# Altium schematic symbol library BW2099_SoM.SchLib: 2 symbols
Pins are listed as number, name and electrical type; pins without a type are passive.

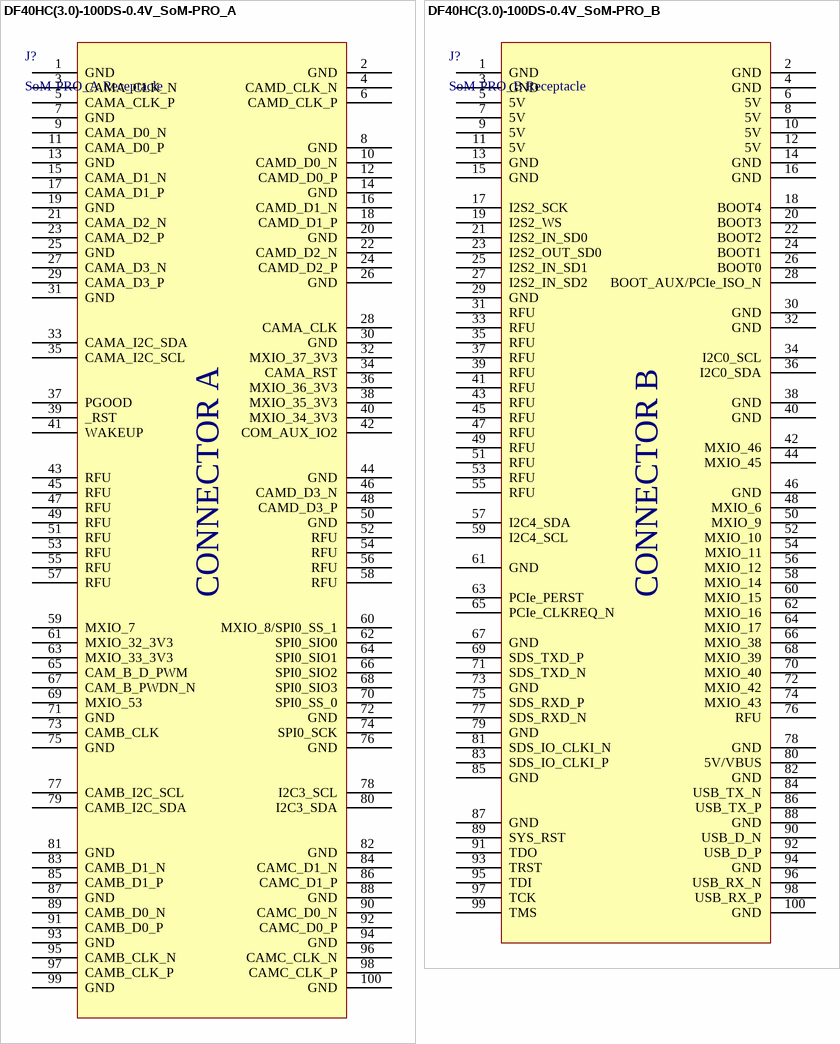
[diagram p0: symbols DF40HC(3.0)-100DS-0.4V_SoM-PRO_A to DF40HC(3.0)-100DS-0.4V_SoM-PRO_B]

## DF40HC(3.0)-100DS-0.4V_SoM-PRO_A
designator J?, comment SoM-PRO_A Receptacle
CONN RCPT 100POS 0.4MM SMD GOLD; Manufacturer 1: Hirose; Manufacturer Part Number 1: DF40HC(3.0)-100DS-0.4V(58); Number of Positions: 100; Pitch: 0.016inch; System: Connector; RoHS: Yes; Mount: Surface Mount; Contact Plating: Gold; Packaging: Tape and Reel; Number of Rows: 2; Package Quantity: 1000; Connector Type: Receptacle; Lead Free: Lead Free; ComponentLink1URL: https://datasheet.ciiva.com/46636/ed-df40-20140305-46636517.pdf?src-supplier=Digi-Key; ComponentLink1Description: https://datasheet.ciiva.com/46636/ed-df40-20140305-46636517.pdf?src-supplier=Digi-Key; ComponentLink2URL: https://datasheet.ciiva.com/18562/ed-df40-20140305-18562189.pdf?src-supplier=Digi-Key; ComponentLink2Description: https://datasheet.ciiva.com/18562/ed-df40-20140305-18562189.pdf?src-supplier=Digi-Key; ComponentLink3URL: https://datasheet.ciiva.com/13559/ed-df40-20140305-13559540.pdf?src-supplier=Mouser; ComponentLink3Description: https://datasheet.ciiva.com/13559/ed-df40-20140305-13559540.pdf?src-supplier=Mouser; ComponentLink4URL: https://datasheet.ciiva.com/18562/ed-df40-20140305-18562462.pdf?src-supplier=Digi-Key; ComponentLink4Description: https://datasheet.ciiva.com/18562/ed-df40-20140305-18562462.pdf?src-supplier=Digi-Key; Supplier 1: Mouser; Stock 1: 2172; Pricing 1: 1=2.54000, 10=2.26000, 25=2.07000, 50=2.07000, 100=1.98000, 250=1.79000, 500=1.65000, 1000=1.41000, 3000=1.32000, 6000=1.23000, 10000=1.23000 (USD); Supplier 2: Mouser; Stock 2: 2078; Pricing 2: 1=2.50000, 10=2.40000, 25=2.10000, 50=2.10000, 100=2.00000, 250=1.76000, 500=1.71000, 1000=1.45000, 2000=1.36000, 5000=1.31000, 10000=1.31000 (USD); Supplier Part Number 1: 798-DF40HC30100DS451; Supplier Part Number 2: 798-DF40HC30100DS458
footprint CON_A_BW2099_SoM_DF40HC-3.0-100DS-0.4V_minpad (3.0MM MATED HEIGHT CONN HDR 100POS 0.4MM SMD GOLD)
pins: 1 GND, 2 GND, 3 CAMA_CLK_N, 4 CAMD_CLK_N, 5 CAMA_CLK_P, 6 CAMD_CLK_P, 7 GND, 8 GND, 9 CAMA_D0_N, 10 CAMD_D0_N, 11 CAMA_D0_P, 12 CAMD_D0_P, 13 GND, 14 GND, 15 CAMA_D1_N, 16 CAMD_D1_N, 17 CAMA_D1_P, 18 CAMD_D1_P, 19 GND, 20 GND, 21 CAMA_D2_N, 22 CAMD_D2_N, 23 CAMA_D2_P, 24 CAMD_D2_P, 25 GND, 26 GND, 27 CAMA_D3_N, 28 CAMA_CLK, 29 CAMA_D3_P, 30 GND, 31 GND, 32 MXIO_37_3V3, 33 CAMA_I2C_SDA, 34 CAMA_RST, 35 CAMA_I2C_SCL, 36 MXIO_36_3V3, 37 PGOOD, 38 MXIO_35_3V3, 39 _RST, 40 MXIO_34_3V3, 41 WAKEUP, 42 COM_AUX_IO2, 43 RFU, 44 GND, 45 RFU, 46 CAMD_D3_N, 47 RFU, 48 CAMD_D3_P, 49 RFU, 50 GND, 51 RFU, 52 RFU, 53 RFU, 54 RFU, 55 RFU, 56 RFU, 57 RFU, 58 RFU, 59 MXIO_7, 60 MXIO_8/SPI0_SS_1, 61 MXIO_32_3V3, 62 SPI0_SIO0, 63 MXIO_33_3V3, 64 SPI0_SIO1, 65 CAM_B_D_PWM, 66 SPI0_SIO2, 67 CAM_B_PWDN_N, 68 SPI0_SIO3, 69 MXIO_53, 70 SPI0_SS_0, 71 GND, 72 GND, 73 CAMB_CLK, 74 SPI0_SCK, 75 GND, 76 GND, 77 CAMB_I2C_SCL, 78 I2C3_SCL, 79 CAMB_I2C_SDA, 80 I2C3_SDA, 81 GND, 82 GND, 83 CAMB_D1_N, 84 CAMC_D1_N, 85 CAMB_D1_P, 86 CAMC_D1_P, 87 GND, 88 GND, 89 CAMB_D0_N, 90 CAMC_D0_N, 91 CAMB_D0_P, 92 CAMC_D0_P, 93 GND, 94 GND, 95 CAMB_CLK_N, 96 CAMC_CLK_N, 97 CAMB_CLK_P, 98 CAMC_CLK_P, 99 GND, 100 GND
text: CONNECTOR A

## DF40HC(3.0)-100DS-0.4V_SoM-PRO_B
designator J?, comment SoM-PRO_B Receptacle
CONN RCPT 100POS 0.4MM SMD GOLD; Manufacturer 1: Hirose; Manufacturer Part Number 1: DF40HC(3.0)-100DS-0.4V(58); Number of Positions: 100; Pitch: 0.016inch; System: Connector; RoHS: Yes; Mount: Surface Mount; Contact Plating: Gold; Packaging: Tape and Reel; Number of Rows: 2; Package Quantity: 1000; Connector Type: Receptacle; Lead Free: Lead Free; ComponentLink1URL: https://datasheet.ciiva.com/46636/ed-df40-20140305-46636517.pdf?src-supplier=Digi-Key; ComponentLink1Description: https://datasheet.ciiva.com/46636/ed-df40-20140305-46636517.pdf?src-supplier=Digi-Key; ComponentLink2URL: https://datasheet.ciiva.com/18562/ed-df40-20140305-18562189.pdf?src-supplier=Digi-Key; ComponentLink2Description: https://datasheet.ciiva.com/18562/ed-df40-20140305-18562189.pdf?src-supplier=Digi-Key; ComponentLink3URL: https://datasheet.ciiva.com/13559/ed-df40-20140305-13559540.pdf?src-supplier=Mouser; ComponentLink3Description: https://datasheet.ciiva.com/13559/ed-df40-20140305-13559540.pdf?src-supplier=Mouser; ComponentLink4URL: https://datasheet.ciiva.com/18562/ed-df40-20140305-18562462.pdf?src-supplier=Digi-Key; ComponentLink4Description: https://datasheet.ciiva.com/18562/ed-df40-20140305-18562462.pdf?src-supplier=Digi-Key; Supplier 1: Mouser; Stock 1: 2172; Pricing 1: 1=2.54000, 10=2.26000, 25=2.07000, 50=2.07000, 100=1.98000, 250=1.79000, 500=1.65000, 1000=1.41000, 3000=1.32000, 6000=1.23000, 10000=1.23000 (USD); Supplier 2: Mouser; Stock 2: 2078; Pricing 2: 1=2.50000, 10=2.40000, 25=2.10000, 50=2.10000, 100=2.00000, 250=1.76000, 500=1.71000, 1000=1.45000, 2000=1.36000, 5000=1.31000, 10000=1.31000 (USD); Supplier Part Number 1: 798-DF40HC30100DS451; Supplier Part Number 2: 798-DF40HC30100DS458
footprint CON_B_BW2099_SoM_DF40HC-3.0-100DS-0.4V_minpad (3.0MM MATED HEIGHT CONN HDR 100POS 0.4MM SMD GOLD)
pins: 1 GND, 2 GND, 3 GND, 4 GND, 5 5V, 6 5V, 7 5V, 8 5V, 9 5V, 10 5V, 11 5V, 12 5V, 13 GND, 14 GND, 15 GND, 16 GND, 17 I2S2_SCK, 18 BOOT4, 19 I2S2_WS, 20 BOOT3, 21 I2S2_IN_SD0, 22 BOOT2, 23 I2S2_OUT_SD0, 24 BOOT1, 25 I2S2_IN_SD1, 26 BOOT0, 27 I2S2_IN_SD2, 28 BOOT_AUX/PCIe_ISO_N, 29 GND, 30 GND, 31 RFU, 32 GND, 33 RFU, 34 I2C0_SCL, 35 RFU, 36 I2C0_SDA, 37 RFU, 38 GND, 39 RFU, 40 GND, 41 RFU, 42 MXIO_46, 43 RFU, 44 MXIO_45, 45 RFU, 46 GND, 47 RFU, 48 MXIO_6, 49 RFU, 50 MXIO_9, 51 RFU, 52 MXIO_10, 53 RFU, 54 MXIO_11, 55 RFU, 56 MXIO_12, 57 I2C4_SDA, 58 MXIO_14, 59 I2C4_SCL, 60 MXIO_15, 61 GND, 62 MXIO_16, 63 PCIe_PERST, 64 MXIO_17, 65 PCIe_CLKREQ_N, 66 MXIO_38, 67 GND, 68 MXIO_39, 69 SDS_TXD_P, 70 MXIO_40, 71 SDS_TXD_N, 72 MXIO_42, 73 GND, 74 MXIO_43, 75 SDS_RXD_P, 76 RFU, 77 SDS_RXD_N, 78 GND, 79 GND, 80 5V/VBUS, 81 SDS_IO_CLKI_N, 82 GND, 83 SDS_IO_CLKI_P, 84 USB_TX_N, 85 GND, 86 USB_TX_P, 87 GND, 88 GND, 89 SYS_RST, 90 USB_D_N, 91 TDO, 92 USB_D_P, 93 TRST, 94 GND, 95 TDI, 96 USB_RX_N, 97 TCK, 98 USB_RX_P, 99 TMS, 100 GND
text: CONNECTOR B